# Altium integrated library 74xx.IntLib: 13 symbols
Pins are listed as number, name and electrical type; pins without a type are passive.

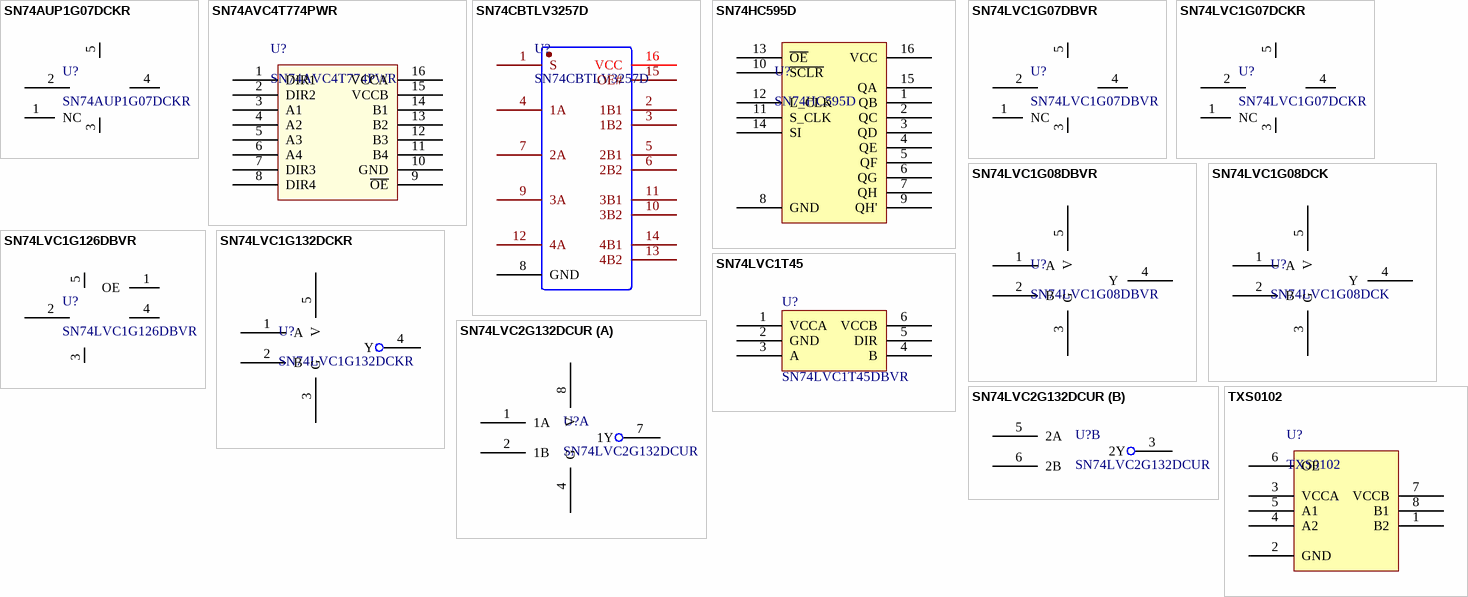
[diagram p0: symbols SN74AUP1G07DCKR to TXS0102]

## SN74AUP1G07DCKR
designator U?
SN74AUP1G07 Low-Power Single Buffer/Driver With Open-Drain Outputs
footprint SC-70-5 (SOT23, 5-Leads, Body 2.00x2.10mm, Pitch 0.65mm, IPC Medium Density)
pins: 1 NC, 2, 3 GND, 4, 5 VCC

## SN74AVC4T774PWR
designator U?
SN74AVC4T774 4-Bit Dual-Supply Bus Transceiver With Configurable Voltage-Level Shifting and 3-State Outputs With Independent Direction Control Inputs
footprint SSOP-16_4.4x5mm_P0.65 (TSOP, 16-Leads, Body 5.00x4.40mm, Pitch 0.65mm, Thermal Pad 3.30x3.30mm, IPC Medium Density)
pins: 1 DIR1, 2 DIR2, 3 A1, 4 A2, 5 A3, 6 A4, 7 DIR3, 8 DIR4, 9 ~{OE}, 10 GND, 11 B4, 12 B3, 13 B2, 14 B1, 15 VCCB, 16 VCCA

## SN74CBTLV3257D
designator U?
SN74CBTLV3257 低电压、4 位、2 选 1 FET 多路复用器/多路解复用器
footprint SSOP-16_4.4x5mm_P0.65 (TSOP, 16-Leads, Body 5.00x4.40mm, Pitch 0.65mm, Thermal Pad 3.30x3.30mm, IPC Medium Density)
pins: 1 S, 2 1B1, 3 1B2, 4 1A, 5 2B1, 6 2B2, 7 2A, 8 GND, 9 3A, 10 3B2, 11 3B1, 12 4A, 13 4B2, 14 4B1, 15 OE#, 16 VCC

## SN74HC595D
designator U?
8-Bit Shift Register/Latch (3-state)
footprint SO-16_3.9mm_P1.27mm (SOIC, 16-Leads, Body 9.90x3.90mm, Pitch 1.27mm, IPC Medium Density)
pins: 1 QB, 2 QC, 3 QD, 4 QE, 5 QF, 6 QG, 7 QH, 8 GND, 9 QH', 10 ~{SCLR}, 11 S_CLK, 12 L_CLK, 13 ~{OE}, 14 SI, 15 QA, 16 VCC

## SN74LVC1G07DBVR
designator U?
SN74LVC1G07DBVR Low-Power Single Buffer/Driver With Open-Drain Outputs  SOT-23-5
footprint SOT-23-5 (SOT23, 5-Leads, Body 2.90x2.45mm, Pitch 0.95mm, IPC Medium Density)
pins: 1 NC, 2, 3 GND, 4, 5 VCC

## SN74LVC1G07DCKR
designator U?
SN74LVC1G07DCKR Low-Power Single Buffer/Driver With Open-Drain Outputs
footprint SC-70-5 (SOT23, 5-Leads, Body 2.00x2.10mm, Pitch 0.65mm, IPC Medium Density)
pins: 1 NC, 2, 3 GND, 4, 5 VCC

## SN74LVC1G08DBVR
designator U?
SN74LVC1G08 单路双输入正与门
footprint SOT-23-5 (SOT23, 5-Leads, Body 2.90x2.45mm, Pitch 0.95mm, IPC Medium Density)
pins: 1 A, 2 B, 3 G, 4 Y, 5 V

## SN74LVC1G08DCK
designator U?
SN74LVC1G08 单路双输入正与门
footprint SC-70-5 (SOT23, 5-Leads, Body 2.00x2.10mm, Pitch 0.65mm, IPC Medium Density)
pins: 1 A, 2 B, 3 G, 4 Y, 5 V

## SN74LVC1G126DBVR
designator U?
SN74LVC1G126 Single Bus Buffer Gate With 3-State Output
footprint SOT-23-5 (SOT23, 5-Leads, Body 2.90x2.45mm, Pitch 0.95mm, IPC Medium Density)
pins: 1 OE, 2, 3 GND, 4, 5 VCC

## SN74LVC1G132DCKR
designator U?
SN74LVC1G132 单路双输入与非门
footprint SC-70-5 (SOT23, 5-Leads, Body 2.00x2.10mm, Pitch 0.65mm, IPC Medium Density)
footprint SOT-23-5 (SOT23, 5-Leads, Body 2.90x2.45mm, Pitch 0.95mm, IPC Medium Density)
pins: 1 A, 2 B, 3 G, 4 Y, 5 V

## SN74LVC1T45
designator U?, comment SN74LVC1T45DBVR
SN74LVC1T45
footprint SOT-23-6 (SOT23, 6-Leads, Body 2.90x2.80mm, Pitch 0.95mm, IPC Medium Density)
pins: 1 VCCA, 2 GND, 3 A, 4 B, 5 DIR, 6 VCCB

## SN74LVC2G132DCUR
designator U?
SN74LVC2G132DCUR 双路双输入与非门
footprint VSSOP-8_2.3x2.0mm_P0.5mm (TSSOP, 8-Leads, Body 2.00x2.30mm, Pitch 0.50mm, IPC Medium Density)
part A pins: 1 1A, 2 1B, 4 G, 7 1Y, 8 V
part B pins: 3 2Y, 5 2A, 6 2B

## TXS0102
designator U?
适用于漏极开路和推挽应用的 TXS0102 2 位双向电压电平 转换器
footprint VSSOP-8_2.3x2.0mm_P0.5mm (TSSOP, 8-Leads, Body 2.00x2.30mm, Pitch 0.50mm, IPC Medium Density)
footprint SSOP-8_2.9x4mm_P0.65mm (TSOP, 8-Leads, Body 2.95x2.80mm, Pitch 0.65mm, IPC Medium Density)
pins: 1 B2, 2 GND, 3 VCCA, 4 A2, 5 A1, 6 OE, 7 VCCB, 8 B1